# Altium footprint library Linear_Regulator_Pcb.PcbLib: 9 footprints
Each footprint in its own frame and in the unit in brackets; x right, y up, seen from the top. Pads: shape width x height; smd on the part's side, far side on the other; paste and mask are expansions set on the pad; w line width, h text height; cw(c..) or ccw(c..) is an arc to the next point about the centre after c.
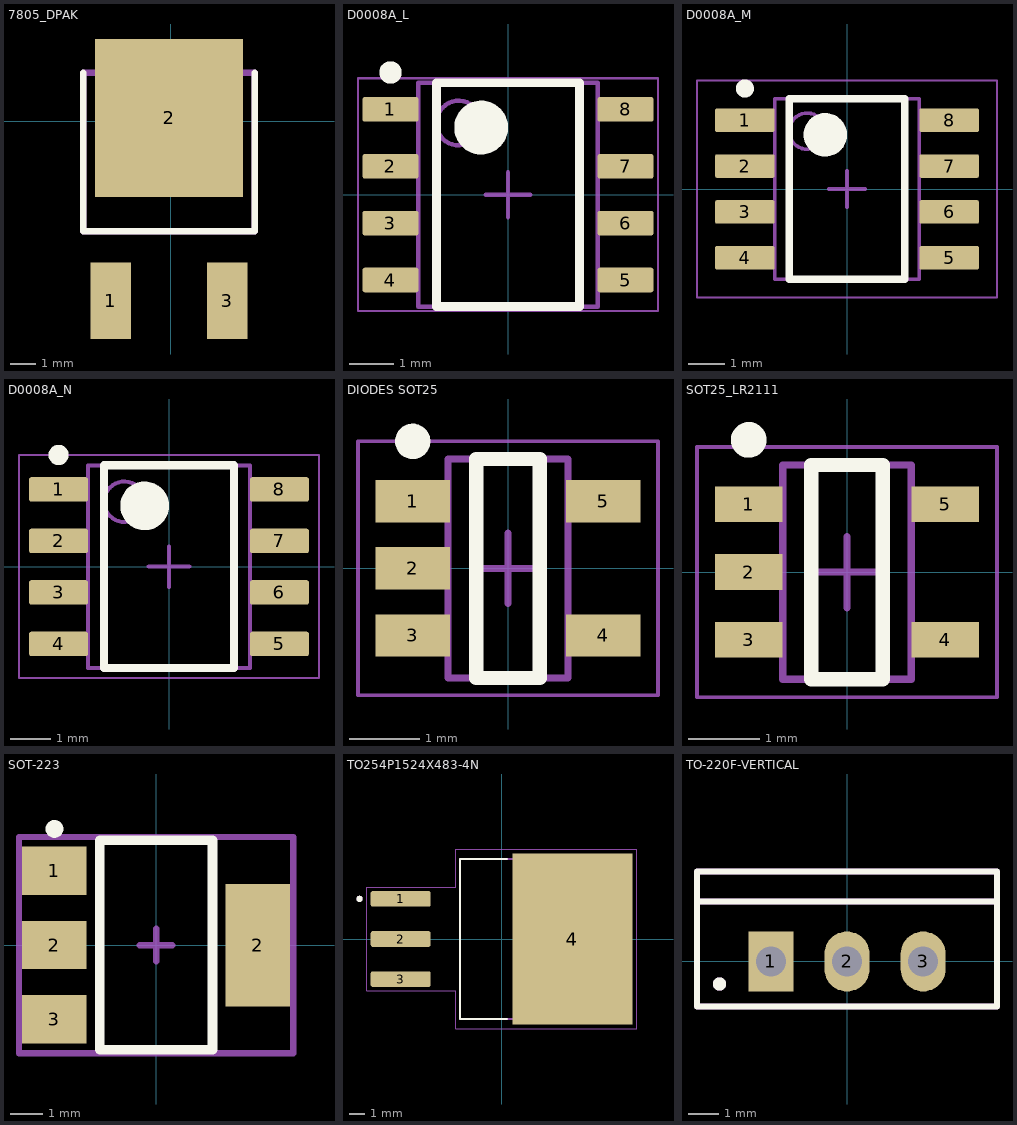
[diagram p0: the footprints below, top view; thin cyan lines are the x and y axes]

## 7805_DPAK [mm]
pads (3):
  rect 1.6x3 smd: 1(-2.358,-7.053) 3(2.212,-7.053)
  rect 5.8x6.2 smd: 2(-0.073,0.127)
Top Overlay:
  lines w0.254: -3.438,1.907 -3.438,-4.313 3.292,-4.313 3.292,1.907
Mechanical 13:
  lines w0.254: -3.438,-4.313 3.292,-4.313 3.292,1.907 -3.438,1.907 -3.438,-4.313
3D body "DPAK.STEP": height 2.4, standoff -0.11, extent -3.336,-7.392 3.164,2.514

## D0008A_L [mm] "SOIC, 8-Leads, Body 5x4mm, Pitch 1.27mm, IPC High Density"
height 1.75
pads (8):
  rrect18% 1.25x0.55 smd: 1(-2.625,1.905) 2(-2.625,0.635) 3(-2.625,-0.635) 4(-2.625,-1.905) 5(2.625,-1.905) 6(2.625,-0.635) 7(2.625,0.635) 8(2.625,1.905)
Top Overlay:
  circle w0.6: c-0.6,1.5 r0.3
  circle w0.25: c-2.625,2.73 r0.125
  lines w0.2: -1.6,-2.5 1.6,-2.5 1.6,2.5 -1.6,2.5 -1.6,-2.5
Mechanical 13:
  circle w0.1: c-1.1,1.6 r0.5
  lines w0.1: -2,-2.5 2,-2.5 2,2.5 -2,2.5 -2,-2.5
  text ".Designator" at -1.352,-1.322 h1.5
Mechanical 15:
  lines w0.05: -3.35,-2.6 3.35,-2.6 3.35,2.6 -3.35,2.6 -3.35,-2.6
  lines w0.1: -0.5,0 0.5,0 ; 0,-0.5 0,0.5
3D body "SOIC-8akaD0008AakaM08A.stp": height 1.63, standoff 0, extent -3,-2.45 3,2.45

## D0008A_M [mm] "SOIC, 8-Leads, Body 5x4mm, Pitch 1.27mm, IPC Low Density"
height 1.75
pads (8):
  rrect15% 1.65x0.65 smd: 1(-2.825,1.905) 2(-2.825,0.635) 3(-2.825,-0.635) 4(-2.825,-1.905) 5(2.825,-1.905) 6(2.825,-0.635) 7(2.825,0.635) 8(2.825,1.905)
Top Overlay:
  circle w0.6: c-0.6,1.5 r0.3
  circle w0.25: c-2.825,2.78 r0.125
  lines w0.2: -1.6,-2.5 1.6,-2.5 1.6,2.5 -1.6,2.5 -1.6,-2.5
Mechanical 13:
  circle w0.1: c-1.1,1.6 r0.5
  lines w0.1: -2,-2.5 2,-2.5 2,2.5 -2,2.5 -2,-2.5
  text ".Designator" at -1.852,-1.072 h1.5
Mechanical 15:
  lines w0.05: -4.15,-3 4.15,-3 4.15,3 -4.15,3 -4.15,-3
  lines w0.1: -0.5,0 0.5,0 ; 0,-0.5 0,0.5
3D body "SOIC-8akaD0008AakaM08A.stp": height 1.63, standoff 0, extent -3,-2.45 3,2.45

## D0008A_N [mm] "SOIC, 8-Leads, Body 5x4mm, Pitch 1.27mm, IPC Medium Density"
height 1.75
pads (8):
  rrect17% 1.45x0.6 smd: 1(-2.725,1.905) 2(-2.725,0.635) 3(-2.725,-0.635) 4(-2.725,-1.905) 5(2.725,-1.905) 6(2.725,-0.635) 7(2.725,0.635) 8(2.725,1.905)
Top Overlay:
  circle w0.6: c-0.6,1.5 r0.3
  circle w0.25: c-2.725,2.755 r0.125
  lines w0.2: -1.6,-2.5 1.6,-2.5 1.6,2.5 -1.6,2.5 -1.6,-2.5
Mechanical 13:
  circle w0.1: c-1.1,1.6 r0.5
  lines w0.1: -2,-2.5 2,-2.5 2,2.5 -2,2.5 -2,-2.5
  text ".Designator" at -1.352,-0.822 h1.5
Mechanical 15:
  lines w0.05: -3.7,-2.75 3.7,-2.75 3.7,2.75 -3.7,2.75 -3.7,-2.75
  lines w0.1: -0.5,0 0.5,0 ; 0,-0.5 0,0.5
3D body "SOIC-8akaD0008AakaM08A.stp": height 1.63, standoff 0, extent -3,-2.45 3,2.45

## DIODES SOT25 [mm] "SOT25, 5-Leads, Body 3.00x2.85mm, Pitch 0.95mm, IPC Medium Density"
height 1.45
pads (5):
  rect 1.05x0.6 smd: 1(-1.35,0.95) 2(-1.35,0) 3(-1.35,-0.95) 4(1.35,-0.95) 5(1.35,0.95)
Top Overlay:
  circle w0.25: c-1.35,1.8 r0.125
  lines w0.2: -0.45,-1.55 0.45,-1.55 0.45,1.55 -0.45,1.55 -0.45,-1.55
Mechanical 13:
  lines w0.1: -0.85,-1.55 -0.85,1.55 0.85,1.55 0.85,-1.55 -0.85,-1.55
Mechanical 15:
  lines w0.05: -2.125,-1.8 -2.125,1.8 2.125,1.8 2.125,-1.8 -2.125,-1.8
  lines w0.1: -0.5,0 0.5,0 ; 0,-0.5 0,0.5
3D body "DIODES SOT25.step": height 1.45, standoff 0, extent -1.5,-1.55 1.5,1.55

## SOT25_LR2111 [mm] "SOT23, 5-Leads, Body 3.00x2.80mm, Pitch 0.95mm, IPC Medium Density"
height 1.3
pads (5):
  rect 0.95x0.5 smd: 1(-1.375,0.95) 2(-1.375,0) 3(-1.375,-0.95) 4(1.375,-0.95) 5(1.375,0.95)
Top Overlay:
  circle w0.25: c-1.375,1.85 r0.125
  lines w0.2: -0.5,-1.5 0.5,-1.5 0.5,1.5 -0.5,1.5 -0.5,-1.5
Mechanical 13:
  lines w0.1: -0.9,-1.5 -0.9,1.5 0.9,1.5 0.9,-1.5 -0.9,-1.5
Mechanical 15:
  lines w0.05: -2.1,-1.75 -2.1,1.75 2.1,1.75 2.1,-1.75 -2.1,-1.75
  lines w0.1: -0.5,0 0.5,0 ; 0,-0.5 0,0.5
3D body "SOT25.step": height 1.16, standoff 0.01, extent -1.194,-1.5 1.206,1.5

## SOT-223 [mm] "SOT223, 4-Leads, Body 6.5x3.5mm, Pitch 2.3mm"
height 1.75
pads (4):
  rect 2x1.5 smd: 1(-3.15,2.3) 2(-3.15,0) 3(-3.15,-2.3)
  rect 2x3.8 smd: 2(3.15,0)
Top Overlay:
  circle w0.3: c-3.15,3.6 r0.125
  lines w0.3: -1.75,-3.25 1.75,-3.25 1.75,3.25 -1.75,3.25 -1.75,-3.2
Mechanical 13:
  lines w0.2: -1.75,-3.25 -1.75,3.25 1.75,3.25 1.75,-3.25 -1.75,-3.25
Mechanical 15:
  lines w0.2: -0.5,0 0.5,0 ; 0,-0.5 0,0.5 ; -4.25,-3.35 4.25,-3.35 4.25,3.35 -4.25,3.35 -4.25,-3.35
3D body "ALSRobot-SOT-223.step": height 1.66, standoff 0.01, extent -3.5,-3.25 3.5,3.25

## TO254P1524X483-4N [mm]
pads (4):
  rrect25% 3.79x0.99 smd: 1(-6.4,2.54) 2(-6.4,0) 3(-6.4,-2.54)
  rect 7.62x10.84 smd paste-6: 4(4.48,0)
Top Overlay:
  circle w0.2: c-9,2.54 r0.1
  lines w0.127: 0.35,-5.08 -2.648,-5.08 -2.648,5.08 0.35,5.08
Top Paste:
  region: 2.665,-5.13 1.215,-5.13 1.215,-3.87 2.665,-3.87
  region: 2.665,-3.33 1.215,-3.33 1.215,-2.07 2.665,-2.07
  region: 2.665,-1.53 1.215,-1.53 1.215,-0.27 2.665,-0.27
  region: 2.665,3.87 1.215,3.87 1.215,5.13 2.665,5.13
  region: 2.665,2.07 1.215,2.07 1.215,3.33 2.665,3.33
  region: 2.665,0.27 1.215,0.27 1.215,1.53 2.665,1.53
  region: 7.745,-5.13 6.295,-5.13 6.295,-3.87 7.745,-3.87
  region: 7.745,-3.33 6.295,-3.33 6.295,-2.07 7.745,-2.07
  region: 7.745,-1.53 6.295,-1.53 6.295,-0.27 7.745,-0.27
  region: 7.745,3.87 6.295,3.87 6.295,5.13 7.745,5.13
  region: 7.745,2.07 6.295,2.07 6.295,3.33 7.745,3.33
  region: 7.745,0.27 6.295,0.27 6.295,1.53 7.745,1.53
  region: 5.205,-5.13 3.755,-5.13 3.755,-3.87 5.205,-3.87
  region: 5.205,-3.33 3.755,-3.33 3.755,-2.07 5.205,-2.07
  region: 5.205,-1.53 3.755,-1.53 3.755,-0.27 5.205,-0.27
  region: 5.205,3.87 3.755,3.87 3.755,5.13 5.205,5.13
  region: 5.205,2.07 3.755,2.07 3.755,3.33 5.205,3.33
  region: 5.205,0.27 3.755,0.27 3.755,1.53 5.205,1.53
Mechanical 13:
  circle w0.2: c-9,2.54 r0.1
  lines w0.127: -2.648,-5.08 -2.648,5.08 6.373,5.08 6.373,-5.08 -2.648,-5.08
Mechanical 15:
  lines w0.05: -8.545,-3.285 -2.898,-3.285 -2.898,-5.67 8.54,-5.67 8.54,5.67 -2.898,5.67 -2.898,3.285 -8.545,3.285 -8.545,-3.285
3D body "DDPAK-3-lead(TO-263-3).step": height 4.87, standoff 0, extent -6.989,-5.08 7.241,5.08

## TO-220F-VERTICAL [mm]
pads (3):
  rect 1.5x2 hole 1: 1(-2.54,0)
  oval 1.5x2 hole 1: 2(0,0) 3(2.54,0)
Top Overlay:
  circle w0.3: c-4.25,-0.75 r0.071
  lines w0.2: -5,2 5,2 ; -5,-1.5 5,-1.5 5,0 5,3 4,3 -3.5,3 -5,3 -5,0 -5,-1.5
Mechanical 29:
  circle w0.3: c-4.25,-0.75 r0.071
  lines w0.2: -5,2 5,2 ; -5,-1.5 5,-1.5 5,0 5,3 4,3 -3.5,3 -5,3 -5,0 -5,-1.5
3D body "TO-220HS.step": height 17.73, standoff -4.62, extent -5.08,-1.524 5.08,3.048